# Altium integrated library NSC ADC.IntLib: 207 symbols (part 4 of 7)
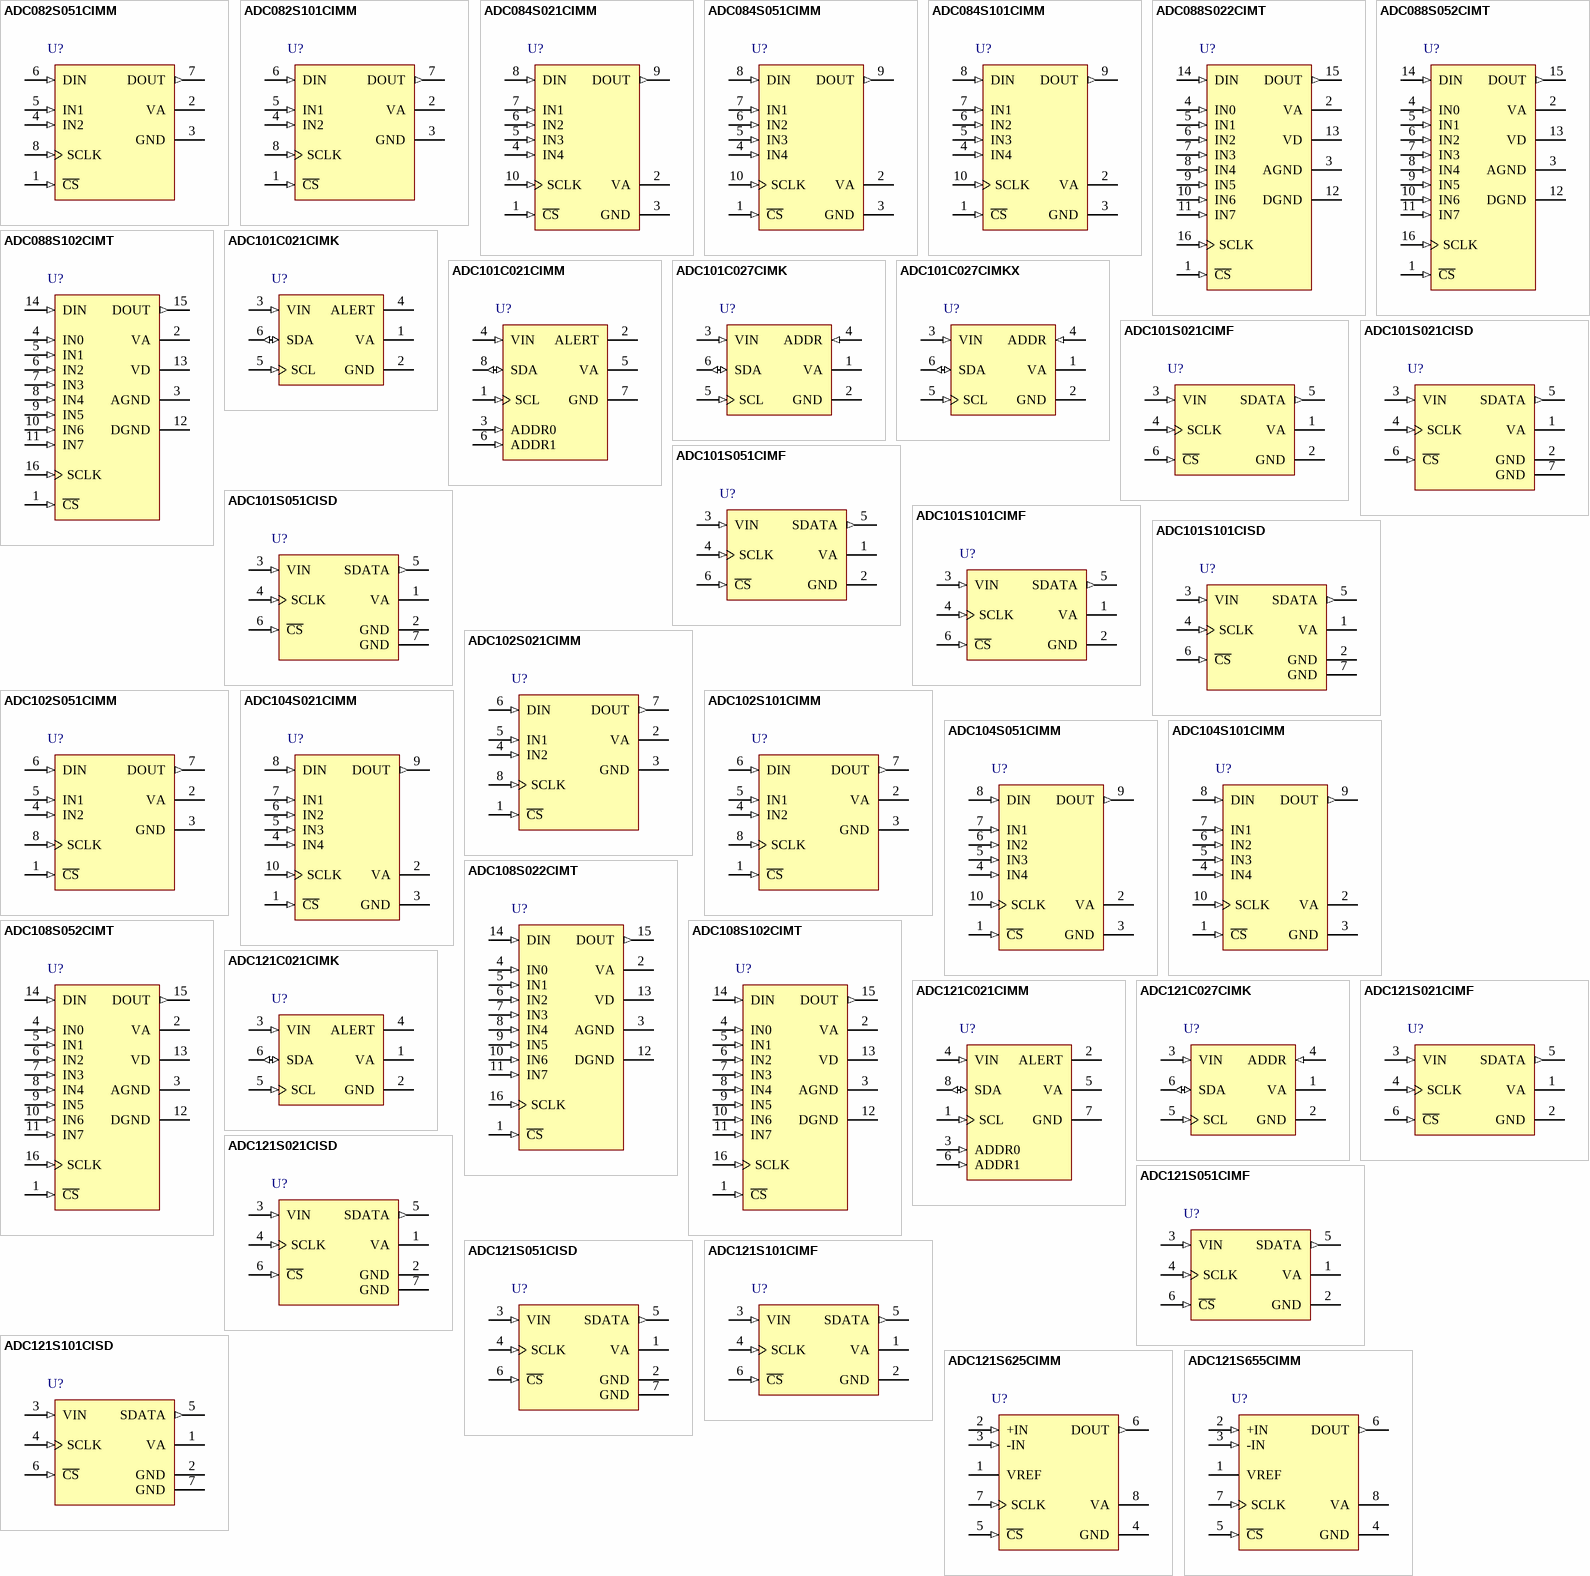
[diagram p20: symbols ADC082S051CIMM to ADC121S655CIMM]

## ADC084S101CIMM
designator U?
4 Channel, 1 MSPS, 8-Bit A/D Converter; PartNumber: ADC084S101CIMM; Manufacturer: National Semiconductor; CompType: ADC IC; PackageTopMarking: ZXTT*X25C; PowerWise: Y; Published: 4-Dec-2008; DatasheetVersion: Apr-2005; PackageVersion: revB, Jul-2003; PackageReference: MUB10A; Publisher: Altium Limited; PackageDescription: Mini-SO, Molded, .118 x .118 x .034in Body, 10 Lead, .0197in Pitch; RoHS: Y; PinCount: 10; DigiKeyPartNumber: ADC084S101CIMMCT-ND; Code_JEDEC: MO-187-BA; ComponentLink1Description: ADC084S101 Datasheet; ComponentLink1URL: http://www.national.com/ds/AD/ADC084S101.pdf; ComponentLink2Description: ADC084S101 Web Page; ComponentLink2URL: http://www.national.com/pf/AD/ADC084S101.html; ComponentLink3Description: MUB10A Package Page; ComponentLink3URL: http://www.national.com/packaging/folders/mub10a.html
footprint MUB10A_N (TSSOP, 10-Leads, Body 3x3mm, Pitch 0.5mm, IPC Medium Density)
footprint MUB10A_L (TSSOP, 10-Leads, Body 3x3mm, Pitch 0.5mm, IPC High Density)
footprint MUB10A_M (TSSOP, 10-Leads, Body 3x3mm, Pitch 0.5mm, IPC Low Density)
pins: 1 ~{CS} (in), 2 VA (power), 3 GND (power), 4 IN4 (in), 5 IN3 (in), 6 IN2 (in), 7 IN1 (in), 8 DIN (in), 9 DOUT (out), 10 SCLK (in)

## ADC088S022CIMT
designator U?
8-Channel, 50 kSPS to 200 kSPS, 8-Bit A/D Converter; PartNumber: ADC088S022CIMT; Manufacturer: National Semiconductor; CompType: ADC IC; PackageTopMarking: NSUZXYTT*88S022*CIMT; PowerWise: Y; Published: 4-Dec-2008; DatasheetVersion: Sep-2005; PackageVersion: revD, Jun-2003; PackageReference: MTC16; Publisher: Altium Limited; PackageDescription: Molded TSSOP, Jedec, 5 x 4.4 x 0.9mm Body, 16 Lead, 0.65mm Pitch; RoHS: Y; PinCount: 16; DigiKeyPartNumber: ADC088S022CIMT-ND; Code_JEDEC: MO-153-AB; ComponentLink1Description: ADC088S022 Datasheet; ComponentLink1URL: http://www.national.com/ds/AD/ADC088S022.pdf; ComponentLink2Description: ADC088S022 Web Page; ComponentLink2URL: http://www.national.com/pf/AD/ADC088S022.html; ComponentLink3Description: MTC16 Package Page; ComponentLink3URL: http://www.national.com/packaging/folders/mtc16.html
footprint MTC16_N (TSOP, 16-Leads, Body 5x4.4mm, Pitch 0.65mm, IPC Medium Density)
footprint MTC16_L (TSOP, 16-Leads, Body 5x4.4mm, Pitch 0.65mm, IPC High Density)
footprint MTC16_M (TSOP, 16-Leads, Body 5x4.4mm, Pitch 0.65mm, IPC Low Density)
pins: 1 ~{CS} (in), 2 VA (power), 3 AGND (power), 4 IN0 (in), 5 IN1 (in), 6 IN2 (in), 7 IN3 (in), 8 IN4 (in), 9 IN5 (in), 10 IN6 (in), 11 IN7 (in), 12 DGND (power), 13 VD (power), 14 DIN (in), 15 DOUT (out), 16 SCLK (in)

## ADC088S052CIMT
designator U?
8-Channel, 200 kSPS to 500 kSPS, 8-Bit A/D Converter; PartNumber: ADC088S052CIMT; Manufacturer: National Semiconductor; CompType: ADC IC; PackageTopMarking: NSUZXYTT*088S052*CIMT; PowerWise: Y; Published: 4-Dec-2008; DatasheetVersion: Sep-2005; PackageVersion: revD, Jun-2003; PackageReference: MTC16; Publisher: Altium Limited; PackageDescription: Molded TSSOP, Jedec, 5 x 4.4 x 0.9mm Body, 16 Lead, 0.65mm Pitch; RoHS: Y; PinCount: 16; DigiKeyPartNumber: ADC088S052CIMT-ND; Code_JEDEC: MO-153-AB; ComponentLink1Description: ADC088S052 Datasheet; ComponentLink1URL: http://www.national.com/ds/AD/ADC088S052.pdf; ComponentLink2Description: ADC088S052 Web Page; ComponentLink2URL: http://www.national.com/pf/AD/ADC088S052.html; ComponentLink3Description: MTC16 Package Page; ComponentLink3URL: http://www.national.com/packaging/folders/mtc16.html
footprint MTC16_N (TSOP, 16-Leads, Body 5x4.4mm, Pitch 0.65mm, IPC Medium Density)
footprint MTC16_L (TSOP, 16-Leads, Body 5x4.4mm, Pitch 0.65mm, IPC High Density)
footprint MTC16_M (TSOP, 16-Leads, Body 5x4.4mm, Pitch 0.65mm, IPC Low Density)
pins: 1 ~{CS} (in), 2 VA (power), 3 AGND (power), 4 IN0 (in), 5 IN1 (in), 6 IN2 (in), 7 IN3 (in), 8 IN4 (in), 9 IN5 (in), 10 IN6 (in), 11 IN7 (in), 12 DGND (power), 13 VD (power), 14 DIN (in), 15 DOUT (out), 16 SCLK (in)

## ADC088S102CIMT
designator U?
8-Channel, 500 kSPS to 1 MSPS, 8-Bit A/D Converter; PartNumber: ADC088S102CIMT; Manufacturer: National Semiconductor; CompType: ADC IC; PackageTopMarking: NSUZXYTT*088S102*CIMT; PowerWise: Y; Published: 4-Dec-2008; DatasheetVersion: Sep-2005; PackageVersion: revD, Jun-2003; PackageReference: MTC16; Publisher: Altium Limited; PackageDescription: Molded TSSOP, Jedec, 5 x 4.4 x 0.9mm Body, 16 Lead, 0.65mm Pitch; RoHS: Y; PinCount: 16; DigiKeyPartNumber: ADC088S102CIMT-ND; Code_JEDEC: MO-153-AB; ComponentLink1Description: ADC088S102 Datasheet; ComponentLink1URL: http://www.national.com/ds/AD/ADC088S102.pdf; ComponentLink2Description: ADC088S102 Web Page; ComponentLink2URL: http://www.national.com/pf/AD/ADC088S102.html; ComponentLink3Description: MTC16 Package Page; ComponentLink3URL: http://www.national.com/packaging/folders/mtc16.html
footprint MTC16_N (TSOP, 16-Leads, Body 5x4.4mm, Pitch 0.65mm, IPC Medium Density)
footprint MTC16_L (TSOP, 16-Leads, Body 5x4.4mm, Pitch 0.65mm, IPC High Density)
footprint MTC16_M (TSOP, 16-Leads, Body 5x4.4mm, Pitch 0.65mm, IPC Low Density)
pins: 1 ~{CS} (in), 2 VA (power), 3 AGND (power), 4 IN0 (in), 5 IN1 (in), 6 IN2 (in), 7 IN3 (in), 8 IN4 (in), 9 IN5 (in), 10 IN6 (in), 11 IN7 (in), 12 DGND (power), 13 VD (power), 14 DIN (in), 15 DOUT (out), 16 SCLK (in)

## ADC101C021CIMK
designator U?
I2C-Compatible, 10-Bit Analog-to-Digital Converter (ADC) with Alert Pin; PartNumber: ADC101C021CIMK; Manufacturer: National Semiconductor; CompType: ADC IC; PackageTopMarking: X33C*XTT; PowerWise: N; Published: 4-Dec-2008; DatasheetVersion: Mar-2009; PackageVersion: revD, Jul-2005; PackageReference: MK06A; Publisher: Altium Limited; PackageDescription: Molded TSOT, 2.97 x 1.65 x 0.87mm Body, 6 Lead, 0.95mm Pitch; RoHS: Y; PinCount: 6; DigiKeyPartNumber: ADC101C021CIMKCT-ND; Code_JEDEC: MO-193-AA; Code_IPC: SOT26A-6; ComponentLink1Description: ADC101C021 Datasheet; ComponentLink1URL: http://www.national.com/ds/AD/ADC101C021.pdf; ComponentLink2Description: ADC101C021 Web Page; ComponentLink2URL: http://www.national.com/pf/AD/ADC101C021.html; ComponentLink3Description: MK06A Package Page; ComponentLink3URL: http://www.national.com/packaging/folders/mk06a.html
footprint MK06A_N (SOT23, 6-Leads, Body 3.0x1.7mm, Pitch 0.95mm, Lead Span 2.9mm, IPC Medium Density)
footprint MK06A_L (SOT23, 6-Leads, Body 3.0x1.7mm, Pitch 0.95mm, Lead Span 2.9mm, IPC High Density)
footprint MK06A_M (SOT23, 6-Leads, Body 3.0x1.7mm, Pitch 0.95mm, Lead Span 2.9mm, IPC Low Density)
pins: 1 VA (power), 2 GND (power), 3 VIN (in), 4 ALERT (oc), 5 SCL (in), 6 SDA (io)

## ADC101C021CIMM
designator U?
I2C-Compatible, 10-Bit Analog-to-Digital Converter (ADC) with Alert Pin; PartNumber: ADC101C021CIMM; Manufacturer: National Semiconductor; CompType: ADC IC; PackageTopMarking: ZXTT*X38C; PowerWise: N; Published: 29-May-2009; DatasheetVersion: Mar-2009; PackageVersion: revF, Apr-2008; PackageReference: MUA08A; Publisher: Altium Limited; PackageDescription: MINI SOIC, .118 x .118 x .034in, 8 Lead, .0256in Pitch; RoHS: Y; PinCount: 8; Code_JEDEC: MO-187-AA; ComponentLink1Description: ADC101C021 Datasheet; ComponentLink1URL: http://www.national.com/ds/AD/ADC081C021.pdf; ComponentLink2Description: ADC101C021 Web Page; ComponentLink2URL: http://www.national.com/pf/AD/ADC101C021.html; ComponentLink3Description: MUA08A Package Page; ComponentLink3URL: http://www.national.com/packaging/folders/mua08a.html
footprint MUA08A_N (TSOP, 8-Leads, Body 3x3mm, Pitch 0.65mm, IPC Medium Density)
footprint MUA08A_L (TSOP, 8-Leads, Body 3x3mm, Pitch 0.65mm, IPC High Density)
footprint MUA08A_M (TSOP, 8-Leads, Body 3x3mm, Pitch 0.65mm, IPC Low Density)
pins: 1 SCL (in), 2 ALERT (oc), 3 ADDR0 (in), 4 VIN (in), 5 VA (power), 6 ADDR1 (in), 7 GND (power), 8 SDA (io)

## ADC101C027CIMK
designator U?
I2C-Compatible, 10-Bit Analog-to-Digital Converter (ADC) with Alert Function; PartNumber: ADC101C027CIMK; Manufacturer: National Semiconductor; CompType: ADC IC; PackageTopMarking: X32C*XTT; PowerWise: N; Published: 4-Dec-2008; DatasheetVersion: Feb-2008; PackageVersion: revD, Jul-2005; PackageReference: MK06A; Publisher: Altium Limited; PackageDescription: Molded TSOT, 2.97 x 1.65 x 0.87mm Body, 6 Lead, 0.95mm Pitch; RoHS: Y; PinCount: 6; DigiKeyPartNumber: ADC101C027CIMKCT-ND; Code_JEDEC: MO-193-AA; Code_IPC: SOT26A-6; ComponentLink1Description: ADC101C027 Datasheet; ComponentLink1URL: http://www.national.com/ds/AD/ADC101C027.pdf; ComponentLink2Description: ADC101C027 Web Page; ComponentLink2URL: http://www.national.com/pf/AD/ADC101C027.html; ComponentLink3Description: MK06A Package Page; ComponentLink3URL: http://www.national.com/packaging/folders/mk06a.html
footprint MK06A_N (SOT23, 6-Leads, Body 3.0x1.7mm, Pitch 0.95mm, Lead Span 2.9mm, IPC Medium Density)
footprint MK06A_L (SOT23, 6-Leads, Body 3.0x1.7mm, Pitch 0.95mm, Lead Span 2.9mm, IPC High Density)
footprint MK06A_M (SOT23, 6-Leads, Body 3.0x1.7mm, Pitch 0.95mm, Lead Span 2.9mm, IPC Low Density)
pins: 1 VA (power), 2 GND (power), 3 VIN (in), 4 ADDR (in), 5 SCL (in), 6 SDA (io)

## ADC101C027CIMKX
designator U?
I2C-Compatible, 10-Bit Analog-to-Digital Converter (ADC) with Alert Function; PartNumber: ADC101C027CIMKX; Manufacturer: National Semiconductor; CompType: ADC IC; PackageTopMarking: X31C*XTT; Published: 4-Dec-2008; DatasheetVersion: Feb-2008; PackageVersion: revD, Jul-2005; PackageReference: MK06A; Publisher: Altium Limited; PackageDescription: Molded TSOT, 2.97 x 1.65 x 0.87mm Body, 6 Lead, 0.95mm Pitch; RoHS: Y; PinCount: 6; DigiKeyPartNumber: ADC101C027CIMKX-ND; Code_JEDEC: MO-193-AA; Code_IPC: SOT26A-6; ComponentLink1Description: ADC101C027 Datasheet; ComponentLink1URL: http://www.national.com/ds/AD/ADC101C027.pdf; ComponentLink2Description: ADC101C027 Web Page; ComponentLink2URL: http://www.national.com/pf/AD/ADC101C027.html; ComponentLink3Description: MK06A Package Page; ComponentLink3URL: http://www.national.com/packaging/folders/mk06a.html
footprint MK06A_N (SOT23, 6-Leads, Body 3.0x1.7mm, Pitch 0.95mm, Lead Span 2.9mm, IPC Medium Density)
footprint MK06A_L (SOT23, 6-Leads, Body 3.0x1.7mm, Pitch 0.95mm, Lead Span 2.9mm, IPC High Density)
footprint MK06A_M (SOT23, 6-Leads, Body 3.0x1.7mm, Pitch 0.95mm, Lead Span 2.9mm, IPC Low Density)
pins: 1 VA (power), 2 GND (power), 3 VIN (in), 4 ADDR (in), 5 SCL (in), 6 SDA (io)

## ADC101S021CIMF
designator U?
Single Channel, 50 to 200 ksps, 10-Bit A/D Converter; PartNumber: ADC101S021CIMF; Manufacturer: National Semiconductor; CompType: ADC IC; PackageTopMarking: X08C*XTT; PowerWise: Y; Published: 4-Dec-2008; DatasheetVersion: Sep-2005; PackageVersion: revC, Sep-2005; PackageReference: MF06A; Publisher: Altium Limited; PackageDescription: Molded SOT-23, .115 x .063 x .040in Body, 6 Lead, .0375in in Pitch; RoHS: Y; PinCount: 6; DigiKeyPartNumber: ADC101S021CIMFCT-ND; Code_JEDEC: MO-178-AB; Code_IPC: SOT26A-6; ComponentLink1Description: ADC101S021 Datasheet; ComponentLink1URL: http://www.national.com/ds/AD/ADC101S021.pdf; ComponentLink2Description: ADC101S021 Web Page; ComponentLink2URL: http://www.national.com/pf/AD/ADC101S021.html; ComponentLink3Description: MF06A Package Page; ComponentLink3URL: http://www.national.com/packaging/folders/mf06a.html
footprint MF06A_N (SOT23, 6-Leads, Body 2.9x1.6mm, Pitch 0.95mm, Lead Span 2.8mm, IPC Medium Density)
footprint MF06A_L (SOT23, 6-Leads, Body 2.9x1.6mm, Pitch 0.95mm, Lead Span 2.8mm, IPC High Density)
footprint MF06A_M (SOT23, 6-Leads, Body 2.9x1.6mm, Pitch 0.95mm, Lead Span 2.8mm, IPC Low Density)
pins: 1 VA (power), 2 GND (power), 3 VIN (in), 4 SCLK (in), 5 SDATA (out), 6 ~{CS} (in)

## ADC101S021CISD
designator U?
Single Channel, 50 to 200 ksps, 10-Bit A/D Converter; PartNumber: ADC101S021CISD; Manufacturer: National Semiconductor; CompType: ADC IC; PackageTopMarking: XTT*X8C; PowerWise: Y; Published: 4-Dec-2008; DatasheetVersion: Nov-2005; PackageVersion: revA, Nov-2003; PackageReference: SDB06A; Publisher: Altium Limited; PackageDescription: LLP, Plastic, Dual, 2.2 x 2.5 x 0.8mm Body, 6 Lead, 0.65mm Pitch, No Pullback; RoHS: Y; PinCount: 6; DigiKeyPartNumber: ADC101S021CISDCT-ND; ComponentLink1Description: ADC101S021 Datasheet; ComponentLink1URL: http://www.national.com/ds/AD/ADC101S021.pdf; ComponentLink2Description: ADC101S021 Web Page; ComponentLink2URL: http://www.national.com/pf/AD/ADC101S021.html; ComponentLink3Description: SDB06A Package Page; ComponentLink3URL: http://www.national.com/packaging/folders/sdb06a.html
footprint SDB06A (SON, 6-Leads, Body 2.2x2.5mm, Pitch 0.65mm, NSC Recommended (SC-70 Land))
pins: 1 VA (power), 2 GND (power), 3 VIN (in), 4 SCLK (in), 5 SDATA (out), 6 ~{CS} (in), 7 GND (power)

## ADC101S051CIMF
designator U?
Single Channel, 200 to 500 ksps, 10-Bit A/D Converter; PartNumber: ADC101S051CIMF; Manufacturer: National Semiconductor; CompType: ADC IC; PackageTopMarking: X14C*XTT; PowerWise: Y; Published: 4-Dec-2008; DatasheetVersion: Sep-2005; PackageVersion: revC, Sep-2005; PackageReference: MF06A; Publisher: Altium Limited; PackageDescription: Molded SOT-23, .115 x .063 x .040in Body, 6 Lead, .0375in in Pitch; RoHS: Y; PinCount: 6; DigiKeyPartNumber: ADC101S051CIMFCT-ND; Code_JEDEC: MO-178-AB; Code_IPC: SOT26A-6; ComponentLink1Description: ADC101S051 Datasheet; ComponentLink1URL: http://www.national.com/ds/AD/ADC101S051.pdf; ComponentLink2Description: ADC101S051 Web Page; ComponentLink2URL: http://www.national.com/pf/AD/ADC101S051.html; ComponentLink3Description: MF06A Package Page; ComponentLink3URL: http://www.national.com/packaging/folders/mf06a.html
footprint MF06A_N (SOT23, 6-Leads, Body 2.9x1.6mm, Pitch 0.95mm, Lead Span 2.8mm, IPC Medium Density)
footprint MF06A_L (SOT23, 6-Leads, Body 2.9x1.6mm, Pitch 0.95mm, Lead Span 2.8mm, IPC High Density)
footprint MF06A_M (SOT23, 6-Leads, Body 2.9x1.6mm, Pitch 0.95mm, Lead Span 2.8mm, IPC Low Density)
pins: 1 VA (power), 2 GND (power), 3 VIN (in), 4 SCLK (in), 5 SDATA (out), 6 ~{CS} (in)

## ADC101S051CISD
designator U?
Single Channel, 200 to 500 ksps, 10-Bit A/D Converter; PartNumber: ADC101S051CISD; Manufacturer: National Semiconductor; CompType: ADC IC; PackageTopMarking: XTT*X5C; PowerWise: Y; Published: 4-Dec-2008; DatasheetVersion: Nov-2005; PackageVersion: revA, Nov-2003; PackageReference: SDB06A; Publisher: Altium Limited; PackageDescription: LLP, Plastic, Dual, 2.2 x 2.5 x 0.8mm Body, 6 Lead, 0.65mm Pitch, No Pullback; RoHS: Y; PinCount: 6; DigiKeyPartNumber: ADC101S051CISDCT-ND; ComponentLink1Description: ADC101S051 Datasheet; ComponentLink1URL: http://www.national.com/ds/AD/ADC101S051.pdf; ComponentLink2Description: ADC101S051 Web Page; ComponentLink2URL: http://www.national.com/pf/AD/ADC101S051.html; ComponentLink3Description: SDB06A Package Page; ComponentLink3URL: http://www.national.com/packaging/folders/sdb06a.html
footprint SDB06A (SON, 6-Leads, Body 2.2x2.5mm, Pitch 0.65mm, NSC Recommended (SC-70 Land))
pins: 1 VA (power), 2 GND (power), 3 VIN (in), 4 SCLK (in), 5 SDATA (out), 6 ~{CS} (in), 7 GND (power)

## ADC101S101CIMF
designator U?
1MSPS, 10-Bit A/D Converter in SOT-23; PartNumber: ADC101S101CIMF; Manufacturer: National Semiconductor; CompType: ADC IC; PackageTopMarking: X02C*XTT; PowerWise: Y; Published: 4-Dec-2008; DatasheetVersion: Jun-2004; PackageVersion: revC, Sep-2005; PackageReference: MF06A; Publisher: Altium Limited; PackageDescription: Molded SOT-23, .115 x .063 x .040in Body, 6 Lead, .0375in in Pitch; RoHS: Y; PinCount: 6; DigiKeyPartNumber: ADC101S101CIMFCT-ND; Code_JEDEC: MO-178-AB; Code_IPC: SOT26A-6; ComponentLink1Description: ADC101S101 Datasheet; ComponentLink1URL: http://www.national.com/ds/AD/ADC101S101.pdf; ComponentLink2Description: ADC101S101 Web Page; ComponentLink2URL: http://www.national.com/pf/AD/ADC101S101.html; ComponentLink3Description: MF06A Package Page; ComponentLink3URL: http://www.national.com/packaging/folders/mf06a.html
footprint MF06A_N (SOT23, 6-Leads, Body 2.9x1.6mm, Pitch 0.95mm, Lead Span 2.8mm, IPC Medium Density)
footprint MF06A_L (SOT23, 6-Leads, Body 2.9x1.6mm, Pitch 0.95mm, Lead Span 2.8mm, IPC High Density)
footprint MF06A_M (SOT23, 6-Leads, Body 2.9x1.6mm, Pitch 0.95mm, Lead Span 2.8mm, IPC Low Density)
pins: 1 VA (power), 2 GND (power), 3 VIN (in), 4 SCLK (in), 5 SDATA (out), 6 ~{CS} (in)

## ADC101S101CISD
designator U?
1MSPS, 10-Bit A/D Converter in SOT-23; PartNumber: ADC101S101CISD; Manufacturer: National Semiconductor; CompType: ADC IC; PackageTopMarking: XTT*X2C; PowerWise: Y; Published: 4-Dec-2008; DatasheetVersion: Nov-2005; PackageVersion: revA, Nov-2003; PackageReference: SDB06A; Publisher: Altium Limited; PackageDescription: LLP, Plastic, Dual, 2.2 x 2.5 x 0.8mm Body, 6 Lead, 0.65mm Pitch, No Pullback; RoHS: Y; PinCount: 6; DigiKeyPartNumber: ADC101S101CISDCT-ND; ComponentLink1Description: ADC101S101 Datasheet; ComponentLink1URL: http://www.national.com/ds/AD/ADC101S101.pdf; ComponentLink2Description: ADC101S101 Web Page; ComponentLink2URL: http://www.national.com/pf/AD/ADC101S101.html; ComponentLink3Description: SDB06A Package Page; ComponentLink3URL: http://www.national.com/packaging/folders/sdb06a.html
footprint SDB06A (SON, 6-Leads, Body 2.2x2.5mm, Pitch 0.65mm, NSC Recommended (SC-70 Land))
pins: 1 VA (power), 2 GND (power), 3 VIN (in), 4 SCLK (in), 5 SDATA (out), 6 ~{CS} (in), 7 GND (power)

## ADC102S021CIMM
designator U?
2 Channel, 200 KSPS, 10-Bit A/D Converter; PartNumber: ADC102S021CIMM; Manufacturer: National Semiconductor; CompType: ADC IC; PackageTopMarking: ZXTT*X17C; PowerWise: Y; Published: 4-Dec-2008; DatasheetVersion: Feb-2005; PackageVersion: revF, Apr-2008; PackageReference: MUA08A; Publisher: Altium Limited; PackageDescription: MINI SOIC, .118 x .118 x .034in, 8 Lead, .0256in Pitch; RoHS: O; PinCount: 8; DigiKeyPartNumber: ADC102S021CIMMCT-ND; Code_JEDEC: MO-187-AA; ComponentLink1Description: ADC102S021 Datasheet; ComponentLink1URL: http://www.national.com/ds/AD/ADC102S021.pdf; ComponentLink2Description: ADC102S021 Web Page; ComponentLink2URL: http://www.national.com/pf/AD/ADC102S021.html; ComponentLink3Description: MUA08A Package Page; ComponentLink3URL: http://www.national.com/packaging/folders/mua08a.html
footprint MUA08A_N (TSOP, 8-Leads, Body 3x3mm, Pitch 0.65mm, IPC Medium Density)
footprint MUA08A_L (TSOP, 8-Leads, Body 3x3mm, Pitch 0.65mm, IPC High Density)
footprint MUA08A_M (TSOP, 8-Leads, Body 3x3mm, Pitch 0.65mm, IPC Low Density)
pins: 1 ~{CS} (in), 2 VA (power), 3 GND (power), 4 IN2 (in), 5 IN1 (in), 6 DIN (in), 7 DOUT (out), 8 SCLK (in)

## ADC102S051CIMM
designator U?
2 Channel, 500 kSPS, 10-Bit A/D Converter; PartNumber: ADC102S051CIMM; Manufacturer: National Semiconductor; CompType: ADC IC; PackageTopMarking: ZXTT*X05C; PowerWise: Y; Published: 4-Dec-2008; DatasheetVersion: Feb-2005; PackageVersion: revF, Apr-2008; PackageReference: MUA08A; Publisher: Altium Limited; PackageDescription: MINI SOIC, .118 x .118 x .034in, 8 Lead, .0256in Pitch; RoHS: Y; PinCount: 8; DigiKeyPartNumber: ADC102S051CIMMCT-ND; Code_JEDEC: MO-187-AA; ComponentLink1Description: ADC102S051 Datasheet; ComponentLink1URL: http://www.national.com/ds/AD/ADC102S051.pdf; ComponentLink2Description: ADC102S051 Web Page; ComponentLink2URL: http://www.national.com/pf/AD/ADC102S051.html; ComponentLink3Description: MUA08A Package Page; ComponentLink3URL: http://www.national.com/packaging/folders/mua08a.html
footprint MUA08A_N (TSOP, 8-Leads, Body 3x3mm, Pitch 0.65mm, IPC Medium Density)
footprint MUA08A_L (TSOP, 8-Leads, Body 3x3mm, Pitch 0.65mm, IPC High Density)
footprint MUA08A_M (TSOP, 8-Leads, Body 3x3mm, Pitch 0.65mm, IPC Low Density)
pins: 1 ~{CS} (in), 2 VA (power), 3 GND (power), 4 IN2 (in), 5 IN1 (in), 6 DIN (in), 7 DOUT (out), 8 SCLK (in)

## ADC102S101CIMM
designator U?
2 Channel, 1 MSPS, 10-Bit A/D Converter; PartNumber: ADC102S101CIMM; Manufacturer: National Semiconductor; CompType: ADC IC; PackageTopMarking: ZXTT*X23C; PowerWise: Y; Published: 4-Dec-2008; DatasheetVersion: Feb-2005; PackageVersion: revF, Apr-2008; PackageReference: MUA08A; Publisher: Altium Limited; PackageDescription: MINI SOIC, .118 x .118 x .034in, 8 Lead, .0256in Pitch; RoHS: Y; PinCount: 8; DigiKeyPartNumber: ADC102S101CIMMCT-ND; Code_JEDEC: MO-187-AA; ComponentLink1Description: ADC102S101 Datasheet; ComponentLink1URL: http://www.national.com/ds/AD/ADC102S101.pdf; ComponentLink2Description: ADC102S101 Web Page; ComponentLink2URL: http://www.national.com/pf/AD/ADC102S101.html; ComponentLink3Description: MUA08A Package Page; ComponentLink3URL: http://www.national.com/packaging/folders/mua08a.html
footprint MUA08A_N (TSOP, 8-Leads, Body 3x3mm, Pitch 0.65mm, IPC Medium Density)
footprint MUA08A_L (TSOP, 8-Leads, Body 3x3mm, Pitch 0.65mm, IPC High Density)
footprint MUA08A_M (TSOP, 8-Leads, Body 3x3mm, Pitch 0.65mm, IPC Low Density)
pins: 1 ~{CS} (in), 2 VA (power), 3 GND (power), 4 IN2 (in), 5 IN1 (in), 6 DIN (in), 7 DOUT (out), 8 SCLK (in)

## ADC104S021CIMM
designator U?
4 Channel 200 kSPS, 10-Bit A/D Converter; PartNumber: ADC104S021CIMM; Manufacturer: National Semiconductor; CompType: ADC IC; PackageTopMarking: ZXTT*X20C; PowerWise: Y; Published: 4-Dec-2008; DatasheetVersion: Feb-2005; PackageVersion: revB, Jul-2003; PackageReference: MUB10A; Publisher: Altium Limited; PackageDescription: Mini-SO, Molded, .118 x .118 x .034in Body, 10 Lead, .0197in Pitch; RoHS: Y; PinCount: 10; DigiKeyPartNumber: ADC104S021CIMMCT-ND; Code_JEDEC: MO-187-BA; ComponentLink1Description: ADC104S021 Datasheet; ComponentLink1URL: http://www.national.com/ds/AD/ADC104S021.pdf; ComponentLink2Description: ADC104S021 Web Page; ComponentLink2URL: http://www.national.com/pf/AD/ADC104S021.html; ComponentLink3Description: MUB10A Package Page; ComponentLink3URL: http://www.national.com/packaging/folders/mub10a.html
footprint MUB10A_N (TSSOP, 10-Leads, Body 3x3mm, Pitch 0.5mm, IPC Medium Density)
footprint MUB10A_L (TSSOP, 10-Leads, Body 3x3mm, Pitch 0.5mm, IPC High Density)
footprint MUB10A_M (TSSOP, 10-Leads, Body 3x3mm, Pitch 0.5mm, IPC Low Density)
pins: 1 ~{CS} (in), 2 VA (power), 3 GND (power), 4 IN4 (in), 5 IN3 (in), 6 IN2 (in), 7 IN1 (in), 8 DIN (in), 9 DOUT (out), 10 SCLK (in)

## ADC104S051CIMM
designator U?
4 Channel 500 kSPS, 10-Bit A/D Converter; PartNumber: ADC104S051CIMM; Manufacturer: National Semiconductor; CompType: ADC IC; PackageTopMarking: ZXTT*X11C; PowerWise: Y; Published: 4-Dec-2008; DatasheetVersion: Feb-2005; PackageVersion: revB, Jul-2003; PackageReference: MUB10A; Publisher: Altium Limited; PackageDescription: Mini-SO, Molded, .118 x .118 x .034in Body, 10 Lead, .0197in Pitch; RoHS: Y; PinCount: 10; DigiKeyPartNumber: ADC104S051CIMMCT-ND; Code_JEDEC: MO-187-BA; ComponentLink1Description: ADC104S051 Datasheet; ComponentLink1URL: http://www.national.com/ds/AD/ADC104S051.pdf; ComponentLink2Description: ADC104S051 Web Page; ComponentLink2URL: http://www.national.com/pf/AD/ADC104S051.html; ComponentLink3Description: MUB10A Package Page; ComponentLink3URL: http://www.national.com/packaging/folders/mub10a.html
footprint MUB10A_N (TSSOP, 10-Leads, Body 3x3mm, Pitch 0.5mm, IPC Medium Density)
footprint MUB10A_L (TSSOP, 10-Leads, Body 3x3mm, Pitch 0.5mm, IPC High Density)
footprint MUB10A_M (TSSOP, 10-Leads, Body 3x3mm, Pitch 0.5mm, IPC Low Density)
pins: 1 ~{CS} (in), 2 VA (power), 3 GND (power), 4 IN4 (in), 5 IN3 (in), 6 IN2 (in), 7 IN1 (in), 8 DIN (in), 9 DOUT (out), 10 SCLK (in)

## ADC104S101CIMM
designator U?
4 Channel 1 MSPS, 10-Bit A/D Converter; PartNumber: ADC104S101CIMM; Manufacturer: National Semiconductor; CompType: ADC IC; PackageTopMarking: ZXTT*X26C; PowerWise: Y; Published: 4-Dec-2008; DatasheetVersion: Feb-2005; PackageVersion: revB, Jul-2003; PackageReference: MUB10A; Publisher: Altium Limited; PackageDescription: Mini-SO, Molded, .118 x .118 x .034in Body, 10 Lead, .0197in Pitch; RoHS: Y; PinCount: 10; DigiKeyPartNumber: ADC104S101CIMMCT-ND; Code_JEDEC: MO-187-BA; ComponentLink1Description: ADC104S101 Datasheet; ComponentLink1URL: http://www.national.com/ds/AD/ADC104S101.pdf; ComponentLink2Description: ADC104S101 Web Page; ComponentLink2URL: http://www.national.com/pf/AD/ADC104S101.html; ComponentLink3Description: MUB10A Package Page; ComponentLink3URL: http://www.national.com/packaging/folders/mub10a.html
footprint MUB10A_N (TSSOP, 10-Leads, Body 3x3mm, Pitch 0.5mm, IPC Medium Density)
footprint MUB10A_L (TSSOP, 10-Leads, Body 3x3mm, Pitch 0.5mm, IPC High Density)
footprint MUB10A_M (TSSOP, 10-Leads, Body 3x3mm, Pitch 0.5mm, IPC Low Density)
pins: 1 ~{CS} (in), 2 VA (power), 3 GND (power), 4 IN4 (in), 5 IN3 (in), 6 IN2 (in), 7 IN1 (in), 8 DIN (in), 9 DOUT (out), 10 SCLK (in)

## ADC108S022CIMT
designator U?
8-Channel, 50 kSPS to 200 kSPS, 10-Bit A/D Converter; PartNumber: ADC108S022CIMT; Manufacturer: National Semiconductor; CompType: ADC IC; PackageTopMarking: NSUZXYTT*108S022*CIMT; PowerWise: Y; Published: 4-Dec-2008; DatasheetVersion: Sep-2005; PackageVersion: revD, Jun-2003; PackageReference: MTC16; Publisher: Altium Limited; PackageDescription: Molded TSSOP, Jedec, 5 x 4.4 x 0.9mm Body, 16 Lead, 0.65mm Pitch; RoHS: Y; PinCount: 16; DigiKeyPartNumber: ADC108S022CIMT-ND; Code_JEDEC: MO-153-AB; ComponentLink1Description: ADC108S022 Datasheet; ComponentLink1URL: http://www.national.com/ds/AD/ADC108S022.pdf; ComponentLink2Description: ADC108S022 Web Page; ComponentLink2URL: http://www.national.com/pf/AD/ADC108S022.html; ComponentLink3Description: MTC16 Package Page; ComponentLink3URL: http://www.national.com/packaging/folders/mtc16.html
footprint MTC16_N (TSOP, 16-Leads, Body 5x4.4mm, Pitch 0.65mm, IPC Medium Density)
footprint MTC16_L (TSOP, 16-Leads, Body 5x4.4mm, Pitch 0.65mm, IPC High Density)
footprint MTC16_M (TSOP, 16-Leads, Body 5x4.4mm, Pitch 0.65mm, IPC Low Density)
pins: 1 ~{CS} (in), 2 VA (power), 3 AGND (power), 4 IN0 (in), 5 IN1 (in), 6 IN2 (in), 7 IN3 (in), 8 IN4 (in), 9 IN5 (in), 10 IN6 (in), 11 IN7 (in), 12 DGND (power), 13 VD (power), 14 DIN (in), 15 DOUT (out), 16 SCLK (in)

## ADC108S052CIMT
designator U?
8-Channel, 200 kSPS to 500 kSPS, 10-Bit A/D Converter; PartNumber: ADC108S052CIMT; Manufacturer: National Semiconductor; CompType: ADC IC; PackageTopMarking: NSUZXYTT*108S052*CIMT; PowerWise: Y; Published: 4-Dec-2008; DatasheetVersion: Sep-2005; PackageVersion: revD, Jun-2003; PackageReference: MTC16; Publisher: Altium Limited; PackageDescription: Molded TSSOP, Jedec, 5 x 4.4 x 0.9mm Body, 16 Lead, 0.65mm Pitch; RoHS: Y; PinCount: 16; DigiKeyPartNumber: ADC108S052CIMT-ND; Code_JEDEC: MO-153-AB; ComponentLink1Description: ADC108S052 Datasheet; ComponentLink1URL: http://www.national.com/ds/AD/ADC108S052.pdf; ComponentLink2Description: ADC108S052 Web Page; ComponentLink2URL: http://www.national.com/pf/AD/ADC108S052.html; ComponentLink3Description: MTC16 Package Page; ComponentLink3URL: http://www.national.com/packaging/folders/mtc16.html
footprint MTC16_N (TSOP, 16-Leads, Body 5x4.4mm, Pitch 0.65mm, IPC Medium Density)
footprint MTC16_L (TSOP, 16-Leads, Body 5x4.4mm, Pitch 0.65mm, IPC High Density)
footprint MTC16_M (TSOP, 16-Leads, Body 5x4.4mm, Pitch 0.65mm, IPC Low Density)
pins: 1 ~{CS} (in), 2 VA (power), 3 AGND (power), 4 IN0 (in), 5 IN1 (in), 6 IN2 (in), 7 IN3 (in), 8 IN4 (in), 9 IN5 (in), 10 IN6 (in), 11 IN7 (in), 12 DGND (power), 13 VD (power), 14 DIN (in), 15 DOUT (out), 16 SCLK (in)

## ADC108S102CIMT
designator U?
8-Channel, 500 kSPS to 1 MSPS, 10-Bit A/D Converter; PartNumber: ADC108S102CIMT; Manufacturer: National Semiconductor; CompType: ADC IC; PackageTopMarking: NSUZXYTT*108S102*CIMT; PowerWise: Y; Published: 4-Dec-2008; DatasheetVersion: Sep-2005; PackageVersion: revD, Jun-2003; PackageReference: MTC16; Publisher: Altium Limited; PackageDescription: Molded TSSOP, Jedec, 5 x 4.4 x 0.9mm Body, 16 Lead, 0.65mm Pitch; RoHS: Y; PinCount: 16; DigiKeyPartNumber: ADC108S102CIMT-ND; Code_JEDEC: MO-153-AB; ComponentLink1Description: ADC108S102 Datasheet; ComponentLink1URL: http://www.national.com/ds/AD/ADC108S102.pdf; ComponentLink2Description: ADC108S102 Web Page; ComponentLink2URL: http://www.national.com/pf/AD/ADC108S102.html; ComponentLink3Description: MTC16 Package Page; ComponentLink3URL: http://www.national.com/packaging/folders/mtc16.html
footprint MTC16_N (TSOP, 16-Leads, Body 5x4.4mm, Pitch 0.65mm, IPC Medium Density)
footprint MTC16_L (TSOP, 16-Leads, Body 5x4.4mm, Pitch 0.65mm, IPC High Density)
footprint MTC16_M (TSOP, 16-Leads, Body 5x4.4mm, Pitch 0.65mm, IPC Low Density)
pins: 1 ~{CS} (in), 2 VA (power), 3 AGND (power), 4 IN0 (in), 5 IN1 (in), 6 IN2 (in), 7 IN3 (in), 8 IN4 (in), 9 IN5 (in), 10 IN6 (in), 11 IN7 (in), 12 DGND (power), 13 VD (power), 14 DIN (in), 15 DOUT (out), 16 SCLK (in)

## ADC121C021CIMK
designator U?
I2C-Compatible, 12-Bit Analog-to-Digital Converter (ADC) with Alert Pin; PartNumber: ADC121C021CIMK; Manufacturer: National Semiconductor; CompType: ADC IC; PackageTopMarking: X30C*XTT; PowerWise: Y; Published: 4-Dec-2008; DatasheetVersion: Jan-2008; PackageVersion: revD, Jul-2005; PackageReference: MK06A; Publisher: Altium Limited; PackageDescription: Molded TSOT, 2.97 x 1.65 x 0.87mm Body, 6 Lead, 0.95mm Pitch; RoHS: O; PinCount: 6; DigiKeyPartNumber: ADC121C021CIMK-ND; Code_JEDEC: MO-193-AA; Code_IPC: SOT26A-6; ComponentLink1Description: ADC121C021 Datasheet; ComponentLink1URL: http://www.national.com/ds/AD/ADC121C021.pdf; ComponentLink2Description: ADC121C021 Web Page; ComponentLink2URL: http://www.national.com/pf/AD/ADC121C021.html; ComponentLink3Description: MK06A Package Page; ComponentLink3URL: http://www.national.com/packaging/folders/mk06a.html
footprint MK06A_N (SOT23, 6-Leads, Body 3.0x1.7mm, Pitch 0.95mm, Lead Span 2.9mm, IPC Medium Density)
footprint MK06A_L (SOT23, 6-Leads, Body 3.0x1.7mm, Pitch 0.95mm, Lead Span 2.9mm, IPC High Density)
footprint MK06A_M (SOT23, 6-Leads, Body 3.0x1.7mm, Pitch 0.95mm, Lead Span 2.9mm, IPC Low Density)
pins: 1 VA (power), 2 GND (power), 3 VIN (in), 4 ALERT (oc), 5 SCL (in), 6 SDA (io)

## ADC121C021CIMM
designator U?
I2C-Compatible, 12-Bit Analog-to-Digital Converter with Alert Pin; PartNumber: ADC121C021CIMM; Manufacturer: National Semiconductor; CompType: ADC IC; PackageTopMarking: ZXTT*X37C; PowerWise: Y; Published: 29-May-2009; DatasheetVersion: Apr-2009; PackageVersion: revF, Apr-2008; PackageReference: MUA08A; Publisher: Altium Limited; PackageDescription: MINI SOIC, .118 x .118 x .034in, 8 Lead, .0256in Pitch; RoHS: Y; PinCount: 8; Code_JEDEC: MO-187-AA; ComponentLink1Description: ADC121C021 Datasheet; ComponentLink1URL: http://www.national.com/ds/AD/ADC121C021.pdf; ComponentLink2Description: ADC121C021 Web Page; ComponentLink2URL: http://www.national.com/pf/AD/ADC121C021.html; ComponentLink3Description: MUA08A Package Page; ComponentLink3URL: http://www.national.com/packaging/folders/mua08a.html
footprint MUA08A_N (TSOP, 8-Leads, Body 3x3mm, Pitch 0.65mm, IPC Medium Density)
footprint MUA08A_L (TSOP, 8-Leads, Body 3x3mm, Pitch 0.65mm, IPC High Density)
footprint MUA08A_M (TSOP, 8-Leads, Body 3x3mm, Pitch 0.65mm, IPC Low Density)
pins: 1 SCL (in), 2 ALERT (oc), 3 ADDR0 (in), 4 VIN (in), 5 VA (power), 6 ADDR1 (in), 7 GND (power), 8 SDA (io)

## ADC121C027CIMK
designator U?
I2C-Compatible, 12-Bit Analog-to-Digital Converter with Alert Function; PartNumber: ADC121C027CIMK; Manufacturer: National Semiconductor; CompType: ADC IC; PackageTopMarking: X31C*XTT; PowerWise: Y; Published: 29-May-2009; DatasheetVersion: Apr-2009; PackageVersion: revD, Jul-2005; PackageReference: MK06A; Publisher: Altium Limited; PackageDescription: Molded TSOT, 2.97 x 1.65 x 0.87mm Body, 6 Lead, 0.95mm Pitch; RoHS: O; PinCount: 6; DigiKeyPartNumber: ADC121C027CIMKCT-ND; Code_JEDEC: MO-193-AA; Code_IPC: SOT26A-6; ComponentLink1Description: ADC121C027 Datasheet; ComponentLink1URL: http://www.national.com/ds/AD/ADC121C027.pdf; ComponentLink2Description: ADC121C027 Web Page; ComponentLink2URL: http://www.national.com/pf/AD/ADC121C027.html; ComponentLink3Description: MK06A Package Page; ComponentLink3URL: http://www.national.com/packaging/folders/mk06a.html
footprint MK06A_N (SOT23, 6-Leads, Body 3.0x1.7mm, Pitch 0.95mm, Lead Span 2.9mm, IPC Medium Density)
footprint MK06A_L (SOT23, 6-Leads, Body 3.0x1.7mm, Pitch 0.95mm, Lead Span 2.9mm, IPC High Density)
footprint MK06A_M (SOT23, 6-Leads, Body 3.0x1.7mm, Pitch 0.95mm, Lead Span 2.9mm, IPC Low Density)
pins: 1 VA (power), 2 GND (power), 3 VIN (in), 4 ADDR (in), 5 SCL (in), 6 SDA (io)

## ADC121S021CIMF
designator U?
Single Channel, 50 to 200 ksps, 12-Bit A/D Converter; PartNumber: ADC121S021CIMF; Manufacturer: National Semiconductor; CompType: ADC IC; PackageTopMarking: X07C*XTT; PowerWise: Y; Published: 4-Dec-2008; DatasheetVersion: Sep-2005; PackageVersion: revC, Sep-2005; PackageReference: MF06A; Publisher: Altium Limited; PackageDescription: Molded SOT-23, .115 x .063 x .040in Body, 6 Lead, .0375in in Pitch; RoHS: Y; PinCount: 6; DigiKeyPartNumber: ADC121S021CIMFCT-ND; Code_JEDEC: MO-178-AB; Code_IPC: SOT26A-6; ComponentLink1Description: ADC121S021 Datasheet; ComponentLink1URL: http://www.national.com/ds/AD/ADC121S021.pdf; ComponentLink2Description: ADC121S021 Web Page; ComponentLink2URL: http://www.national.com/pf/AD/ADC121S021.html; ComponentLink3Description: MF06A Package Page; ComponentLink3URL: http://www.national.com/packaging/folders/mf06a.html
footprint MF06A_N (SOT23, 6-Leads, Body 2.9x1.6mm, Pitch 0.95mm, Lead Span 2.8mm, IPC Medium Density)
footprint MF06A_L (SOT23, 6-Leads, Body 2.9x1.6mm, Pitch 0.95mm, Lead Span 2.8mm, IPC High Density)
footprint MF06A_M (SOT23, 6-Leads, Body 2.9x1.6mm, Pitch 0.95mm, Lead Span 2.8mm, IPC Low Density)
pins: 1 VA (power), 2 GND (power), 3 VIN (in), 4 SCLK (in), 5 SDATA (out), 6 ~{CS} (in)

## ADC121S021CISD
designator U?
Single Channel, 50 to 200 ksps, 12-Bit A/D Converter; PartNumber: ADC121S021CISD; Manufacturer: National Semiconductor; CompType: ADC IC; PackageTopMarking: XTT*X7C; PowerWise: Y; Published: 4-Dec-2008; DatasheetVersion: Nov-2005; PackageVersion: revA, Nov-2003; PackageReference: SDB06A; Publisher: Altium Limited; PackageDescription: LLP, Plastic, Dual, 2.2 x 2.5 x 0.8mm Body, 6 Lead, 0.65mm Pitch, No Pullback; RoHS: Y; PinCount: 6; DigiKeyPartNumber: ADC121S021CISDCT-ND; ComponentLink1Description: ADC121S021 Datasheet; ComponentLink1URL: http://www.national.com/ds/AD/ADC121S021.pdf; ComponentLink2Description: ADC121S021 Web Page; ComponentLink2URL: http://www.national.com/pf/AD/ADC121S021.html; ComponentLink3Description: SDB06A Package Page; ComponentLink3URL: http://www.national.com/packaging/folders/sdb06a.html
footprint SDB06A (SON, 6-Leads, Body 2.2x2.5mm, Pitch 0.65mm, NSC Recommended (SC-70 Land))
pins: 1 VA (power), 2 GND (power), 3 VIN (in), 4 SCLK (in), 5 SDATA (out), 6 ~{CS} (in), 7 GND (power)

## ADC121S051CIMF
designator U?
Single Channel, 200 to 500 ksps, 12-Bit A/D Converter; PartNumber: ADC121S051CIMF; Manufacturer: National Semiconductor; CompType: ADC IC; PackageTopMarking: X13C*XTT; PowerWise: Y; Published: 4-Dec-2008; DatasheetVersion: Sep-2005; PackageVersion: revC, Sep-2005; PackageReference: MF06A; Publisher: Altium Limited; PackageDescription: Molded SOT-23, .115 x .063 x .040in Body, 6 Lead, .0375in in Pitch; RoHS: Y; PinCount: 6; DigiKeyPartNumber: ADC121S051CIMFCT-ND; Code_JEDEC: MO-178-AB; Code_IPC: SOT26A-6; ComponentLink1Description: ADC121S051 Datasheet; ComponentLink1URL: http://www.national.com/ds/AD/ADC121S051.pdf; ComponentLink2Description: ADC121S051 Web Page; ComponentLink2URL: http://www.national.com/pf/AD/ADC121S051.html; ComponentLink3Description: MF06A Package Page; ComponentLink3URL: http://www.national.com/packaging/folders/mf06a.html
footprint MF06A_N (SOT23, 6-Leads, Body 2.9x1.6mm, Pitch 0.95mm, Lead Span 2.8mm, IPC Medium Density)
footprint MF06A_L (SOT23, 6-Leads, Body 2.9x1.6mm, Pitch 0.95mm, Lead Span 2.8mm, IPC High Density)
footprint MF06A_M (SOT23, 6-Leads, Body 2.9x1.6mm, Pitch 0.95mm, Lead Span 2.8mm, IPC Low Density)
pins: 1 VA (power), 2 GND (power), 3 VIN (in), 4 SCLK (in), 5 SDATA (out), 6 ~{CS} (in)

## ADC121S051CISD
designator U?
Single Channel, 200 to 500 ksps, 12-Bit A/D Converter; PartNumber: ADC121S051CISD; Manufacturer: National Semiconductor; CompType: ADC IC; PackageTopMarking: XTT*X4C; PowerWise: Y; Published: 4-Dec-2008; DatasheetVersion: Nov-2005; PackageVersion: revA, Nov-2003; PackageReference: SDB06A; Publisher: Altium Limited; PackageDescription: LLP, Plastic, Dual, 2.2 x 2.5 x 0.8mm Body, 6 Lead, 0.65mm Pitch, No Pullback; RoHS: Y; PinCount: 6; DigiKeyPartNumber: ADC121S051CISDCT-ND; ComponentLink1Description: ADC121S051 Datasheet; ComponentLink1URL: http://www.national.com/ds/AD/ADC121S051.pdf; ComponentLink2Description: ADC121S051 Web Page; ComponentLink2URL: http://www.national.com/pf/AD/ADC121S051.html; ComponentLink3Description: SDB06A Package Page; ComponentLink3URL: http://www.national.com/packaging/folders/sdb06a.html
footprint SDB06A (SON, 6-Leads, Body 2.2x2.5mm, Pitch 0.65mm, NSC Recommended (SC-70 Land))
pins: 1 VA (power), 2 GND (power), 3 VIN (in), 4 SCLK (in), 5 SDATA (out), 6 ~{CS} (in), 7 GND (power)

## ADC121S101CIMF
designator U?
1MSPS, 12-Bit A/D Converter in SOT-23; PartNumber: ADC121S101CIMF; Manufacturer: National Semiconductor; CompType: ADC IC; PackageTopMarking: X01C*XTT; PowerWise: Y; Published: 4-Dec-2008; DatasheetVersion: Jun-2004; PackageVersion: revC, Sep-2005; PackageReference: MF06A; Publisher: Altium Limited; PackageDescription: Molded SOT-23, .115 x .063 x .040in Body, 6 Lead, .0375in in Pitch; RoHS: Y; PinCount: 6; DigiKeyPartNumber: ADC121S101CIMFCT-ND; Code_JEDEC: MO-178-AB; Code_IPC: SOT26A-6; ComponentLink1Description: ADC121S101 Datasheet; ComponentLink1URL: http://www.national.com/ds/AD/ADC121S101.pdf; ComponentLink2Description: ADC121S101 Web Page; ComponentLink2URL: http://www.national.com/pf/AD/ADC121S101.html; ComponentLink3Description: MF06A Package Page; ComponentLink3URL: http://www.national.com/packaging/folders/mf06a.html
footprint MF06A_N (SOT23, 6-Leads, Body 2.9x1.6mm, Pitch 0.95mm, Lead Span 2.8mm, IPC Medium Density)
footprint MF06A_L (SOT23, 6-Leads, Body 2.9x1.6mm, Pitch 0.95mm, Lead Span 2.8mm, IPC High Density)
footprint MF06A_M (SOT23, 6-Leads, Body 2.9x1.6mm, Pitch 0.95mm, Lead Span 2.8mm, IPC Low Density)
pins: 1 VA (power), 2 GND (power), 3 VIN (in), 4 SCLK (in), 5 SDATA (out), 6 ~{CS} (in)

## ADC121S101CISD
designator U?
1MSPS, 12-Bit A/D Converter in SOT-23; PartNumber: ADC121S101CISD; Manufacturer: National Semiconductor; CompType: ADC IC; PackageTopMarking: XTT*X1C; PowerWise: Y; Published: 4-Dec-2008; DatasheetVersion: Nov-2005; PackageVersion: revA, Nov-2003; PackageReference: SDB06A; Publisher: Altium Limited; PackageDescription: LLP, Plastic, Dual, 2.2 x 2.5 x 0.8mm Body, 6 Lead, 0.65mm Pitch, No Pullback; RoHS: Y; PinCount: 6; DigiKeyPartNumber: ADC121S101CISDCT-ND; ComponentLink1Description: ADC121S101 Datasheet; ComponentLink1URL: http://www.national.com/ds/AD/ADC121S101.pdf; ComponentLink2Description: ADC121S101 Web Page; ComponentLink2URL: http://www.national.com/pf/AD/ADC121S101.html; ComponentLink3Description: SDB06A Package Page; ComponentLink3URL: http://www.national.com/packaging/folders/sdb06a.html
footprint SDB06A (SON, 6-Leads, Body 2.2x2.5mm, Pitch 0.65mm, NSC Recommended (SC-70 Land))
pins: 1 VA (power), 2 GND (power), 3 VIN (in), 4 SCLK (in), 5 SDATA (out), 6 ~{CS} (in), 7 GND (power)

## ADC121S625CIMM
designator U?
12-Bit, 50 ksps to 200 ksps, Differential Input, Micro Power Sampling A/D Converter; PartNumber: ADC121S625CIMM; Manufacturer: National Semiconductor; CompType: ADC IC; PackageTopMarking: ZXTT*X0AC; PowerWise: N; Published: 4-Dec-2008; DatasheetVersion: May-2005; PackageVersion: revF, Apr-2008; PackageReference: MUA08A; Publisher: Altium Limited; PackageDescription: MINI SOIC, .118 x .118 x .034in, 8 Lead, .0256in Pitch; RoHS: Y; PinCount: 8; DigiKeyPartNumber: ADC121S625CIMMCT-ND; Code_JEDEC: MO-187-AA; ComponentLink1Description: ADC121S625 Datasheet; ComponentLink1URL: http://www.national.com/ds/AD/ADC121S625.pdf; ComponentLink2Description: ADC121S625 Web Page; ComponentLink2URL: http://www.national.com/pf/AD/ADC121S625.html; ComponentLink3Description: MUA08A Package Page; ComponentLink3URL: http://www.national.com/packaging/folders/mua08a.html
footprint MUA08A_N (TSOP, 8-Leads, Body 3x3mm, Pitch 0.65mm, IPC Medium Density)
footprint MUA08A_L (TSOP, 8-Leads, Body 3x3mm, Pitch 0.65mm, IPC High Density)
footprint MUA08A_M (TSOP, 8-Leads, Body 3x3mm, Pitch 0.65mm, IPC Low Density)
pins: 1 VREF (power), 2 +IN (in), 3 -IN (in), 4 GND (power), 5 ~{CS} (in), 6 DOUT (out), 7 SCLK (in), 8 VA (power)

## ADC121S655CIMM
designator U?
12-Bit, 200 kSPS to 500 kSPS, Differential Input, Micro Power A/D Converter; PartNumber: ADC121S655CIMM; Manufacturer: National Semiconductor; CompType: ADC IC; PackageTopMarking: ZXTT*X2AC; PowerWise: N; Published: 4-Dec-2008; DatasheetVersion: Apr-2007; PackageVersion: revF, Apr-2008; PackageReference: MUA08A; Publisher: Altium Limited; PackageDescription: MINI SOIC, .118 x .118 x .034in, 8 Lead, .0256in Pitch; RoHS: Y; PinCount: 8; DigiKeyPartNumber: ADC121S655CIMMCT-ND; Code_JEDEC: MO-187-AA; ComponentLink1Description: ADC121S655 Datasheet; ComponentLink1URL: http://www.national.com/ds/AD/ADC121S655.pdf; ComponentLink2Description: ADC121S655 Web Page; ComponentLink2URL: http://www.national.com/pf/AD/ADC121S655.html; ComponentLink3Description: MUA08A Package Page; ComponentLink3URL: http://www.national.com/packaging/folders/mua08a.html
footprint MUA08A_N (TSOP, 8-Leads, Body 3x3mm, Pitch 0.65mm, IPC Medium Density)
footprint MUA08A_L (TSOP, 8-Leads, Body 3x3mm, Pitch 0.65mm, IPC High Density)
footprint MUA08A_M (TSOP, 8-Leads, Body 3x3mm, Pitch 0.65mm, IPC Low Density)
pins: 1 VREF (power), 2 +IN (in), 3 -IN (in), 4 GND (power), 5 ~{CS} (in), 6 DOUT (out), 7 SCLK (in), 8 VA (power)

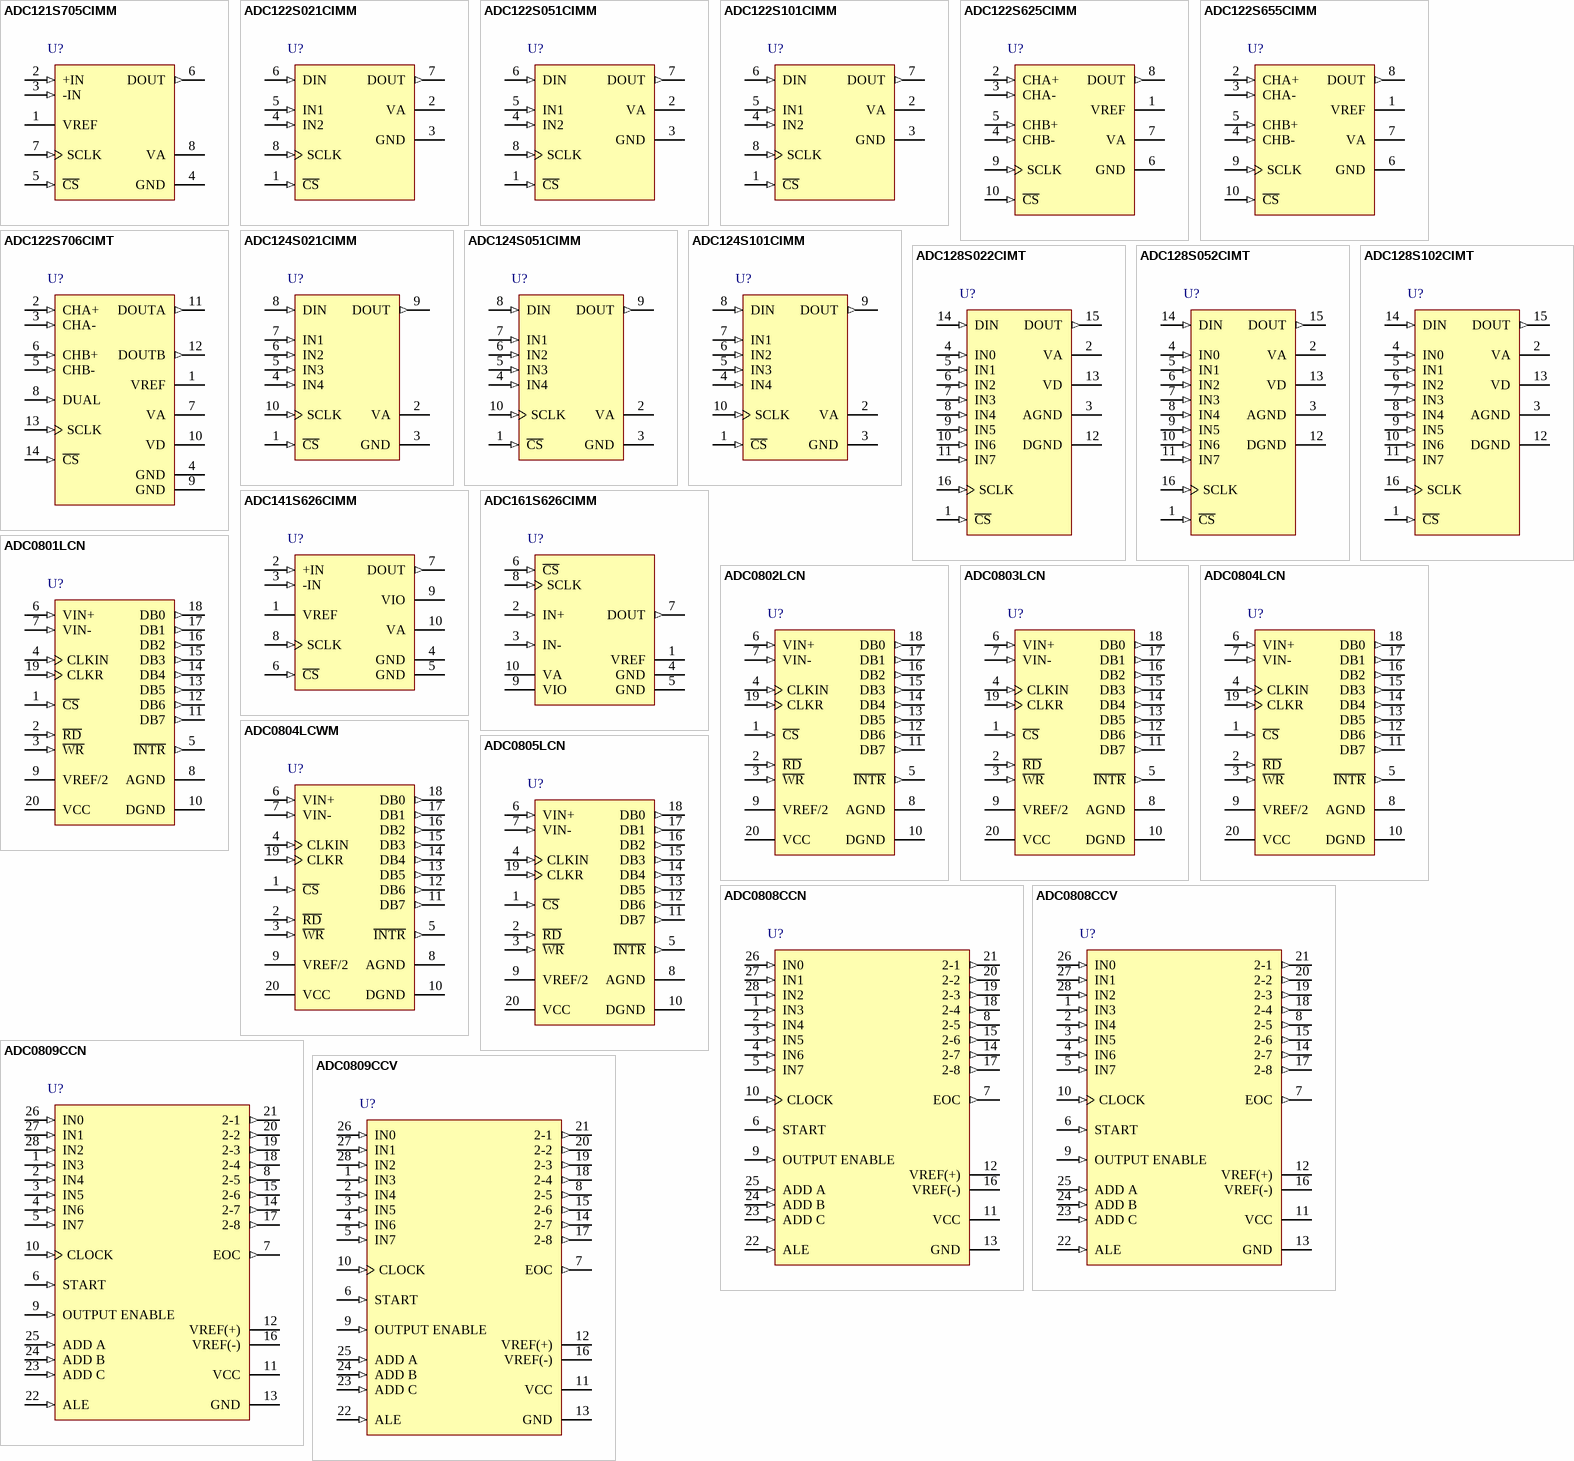
[diagram p10: symbols ADC121S705CIMM to ADC0809CCV]

## ADC121S705CIMM
designator U?
12-Bit, 500 kSPS to 1 MSPS, Differential Input, Micro Power A/D Converter; PartNumber: ADC121S705CIMM; Manufacturer: National Semiconductor; CompType: ADC IC; PackageTopMarking: ZXTT*X1AC; PowerWise: N; Published: 4-Dec-2008; DatasheetVersion: Dec-2006; PackageVersion: revF, Apr-2008; PackageReference: MUA08A; Publisher: Altium Limited; PackageDescription: MINI SOIC, .118 x .118 x .034in, 8 Lead, .0256in Pitch; RoHS: Y; PinCount: 8; DigiKeyPartNumber: ADC121S705CIMMCT-ND; Code_JEDEC: MO-187-AA; ComponentLink1Description: ADC121S705 Datasheet; ComponentLink1URL: http://www.national.com/ds/AD/ADC121S705.pdf; ComponentLink2Description: ADC121S705 Web Page; ComponentLink2URL: http://www.national.com/pf/AD/ADC121S705.html; ComponentLink3Description: MUA08A Package Page; ComponentLink3URL: http://www.national.com/packaging/folders/mua08a.html
footprint MUA08A_N (TSOP, 8-Leads, Body 3x3mm, Pitch 0.65mm, IPC Medium Density)
footprint MUA08A_L (TSOP, 8-Leads, Body 3x3mm, Pitch 0.65mm, IPC High Density)
footprint MUA08A_M (TSOP, 8-Leads, Body 3x3mm, Pitch 0.65mm, IPC Low Density)
pins: 1 VREF (power), 2 +IN (in), 3 -IN (in), 4 GND (power), 5 ~{CS} (in), 6 DOUT (out), 7 SCLK (in), 8 VA (power)

## ADC122S021CIMM
designator U?
2 Channel, 200 KSPS 12-Bit A/D Converter; PartNumber: ADC122S021CIMM; Manufacturer: National Semiconductor; CompType: ADC IC; PackageTopMarking: ZXTT*X18C; PowerWise: Y; Published: 4-Dec-2008; DatasheetVersion: Mar-2005; PackageVersion: revF, Apr-2008; PackageReference: MUA08A; Publisher: Altium Limited; PackageDescription: MINI SOIC, .118 x .118 x .034in, 8 Lead, .0256in Pitch; RoHS: Y; PinCount: 8; DigiKeyPartNumber: ADC122S021CIMMCT-ND; Code_JEDEC: MO-187-AA; ComponentLink1Description: ADC122S021 Datasheet; ComponentLink1URL: http://www.national.com/ds/AD/ADC122S021.pdf; ComponentLink2Description: ADC122S021 Web Page; ComponentLink2URL: http://www.national.com/pf/AD/ADC122S021.html; ComponentLink3Description: MUA08A Package Page; ComponentLink3URL: http://www.national.com/packaging/folders/mua08a.html
footprint MUA08A_N (TSOP, 8-Leads, Body 3x3mm, Pitch 0.65mm, IPC Medium Density)
footprint MUA08A_L (TSOP, 8-Leads, Body 3x3mm, Pitch 0.65mm, IPC High Density)
footprint MUA08A_M (TSOP, 8-Leads, Body 3x3mm, Pitch 0.65mm, IPC Low Density)
pins: 1 ~{CS} (in), 2 VA (power), 3 GND (power), 4 IN2 (in), 5 IN1 (in), 6 DIN (in), 7 DOUT (out), 8 SCLK (in)

## ADC122S051CIMM
designator U?
2 Channel, 500 kSPS 12-Bit A/D Converter; PartNumber: ADC122S051CIMM; Manufacturer: National Semiconductor; CompType: ADC IC; PackageTopMarking: ZXTT*X06C; PowerWise: Y; Published: 4-Dec-2008; DatasheetVersion: Mar-2005; PackageVersion: revF, Apr-2008; PackageReference: MUA08A; Publisher: Altium Limited; PackageDescription: MINI SOIC, .118 x .118 x .034in, 8 Lead, .0256in Pitch; RoHS: Y; PinCount: 8; DigiKeyPartNumber: ADC122S051CIMMCT-ND; Code_JEDEC: MO-187-AA; ComponentLink1Description: ADC122S051 Datasheet; ComponentLink1URL: http://www.national.com/ds/AD/ADC122S051.pdf; ComponentLink2Description: ADC122S051 Web Page; ComponentLink2URL: http://www.national.com/pf/AD/ADC122S051.html; ComponentLink3Description: MUA08A Package Page; ComponentLink3URL: http://www.national.com/packaging/folders/mua08a.html
footprint MUA08A_N (TSOP, 8-Leads, Body 3x3mm, Pitch 0.65mm, IPC Medium Density)
footprint MUA08A_L (TSOP, 8-Leads, Body 3x3mm, Pitch 0.65mm, IPC High Density)
footprint MUA08A_M (TSOP, 8-Leads, Body 3x3mm, Pitch 0.65mm, IPC Low Density)
pins: 1 ~{CS} (in), 2 VA (power), 3 GND (power), 4 IN2 (in), 5 IN1 (in), 6 DIN (in), 7 DOUT (out), 8 SCLK (in)

## ADC122S101CIMM
designator U?
2 Channel, 1MSPS 12-Bit A/D Converter; PartNumber: ADC122S101CIMM; Manufacturer: National Semiconductor; CompType: ADC IC; PackageTopMarking: ZXTT*X24C; PowerWise: Y; Published: 4-Dec-2008; DatasheetVersion: Mar-2005; PackageVersion: revF, Apr-2008; PackageReference: MUA08A; Publisher: Altium Limited; PackageDescription: MINI SOIC, .118 x .118 x .034in, 8 Lead, .0256in Pitch; RoHS: Y; PinCount: 8; DigiKeyPartNumber: ADC122S101CIMMCT-ND; Code_JEDEC: MO-187-AA; ComponentLink1Description: ADC122S101 Datasheet; ComponentLink1URL: http://www.national.com/ds/AD/ADC122S101.pdf; ComponentLink2Description: ADC122S101 Web Page; ComponentLink2URL: http://www.national.com/pf/AD/ADC122S101.html; ComponentLink3Description: MUA08A Package Page; ComponentLink3URL: http://www.national.com/packaging/folders/mua08a.html
footprint MUA08A_N (TSOP, 8-Leads, Body 3x3mm, Pitch 0.65mm, IPC Medium Density)
footprint MUA08A_L (TSOP, 8-Leads, Body 3x3mm, Pitch 0.65mm, IPC High Density)
footprint MUA08A_M (TSOP, 8-Leads, Body 3x3mm, Pitch 0.65mm, IPC Low Density)
pins: 1 ~{CS} (in), 2 VA (power), 3 GND (power), 4 IN2 (in), 5 IN1 (in), 6 DIN (in), 7 DOUT (out), 8 SCLK (in)

## ADC122S625CIMM
designator U?
Dual 12-Bit, 50 kSPS to 200 kSPS, Simultaneous Sampling A/D Converter; PartNumber: ADC122S625CIMM; Manufacturer: National Semiconductor; CompType: ADC IC; PackageTopMarking: ZXTT*X35C; PowerWise: N; Published: 4-Dec-2008; DatasheetVersion: Feb-2008; PackageVersion: revB, Jul-2003; PackageReference: MUB10A; Publisher: Altium Limited; PackageDescription: Mini-SO, Molded, .118 x .118 x .034in Body, 10 Lead, .0197in Pitch; RoHS: Y; PinCount: 10; DigiKeyPartNumber: ADC122S625CIMMCT-ND; Code_JEDEC: MO-187-BA; ComponentLink1Description: ADC122S625 Datasheet; ComponentLink1URL: http://www.national.com/ds/AD/ADC122S625.pdf; ComponentLink2Description: ADC122S625 Web Page; ComponentLink2URL: http://www.national.com/pf/AD/ADC122S625.html; ComponentLink3Description: MUB10A Package Page; ComponentLink3URL: http://www.national.com/packaging/folders/mub10a.html
footprint MUB10A_N (TSSOP, 10-Leads, Body 3x3mm, Pitch 0.5mm, IPC Medium Density)
footprint MUB10A_L (TSSOP, 10-Leads, Body 3x3mm, Pitch 0.5mm, IPC High Density)
footprint MUB10A_M (TSSOP, 10-Leads, Body 3x3mm, Pitch 0.5mm, IPC Low Density)
pins: 1 VREF (power), 2 CHA+ (in), 3 CHA- (in), 4 CHB- (in), 5 CHB+ (in), 6 GND (power), 7 VA (power), 8 DOUT (out), 9 SCLK (in), 10 ~{CS} (in)

## ADC122S655CIMM
designator U?
Dual 12-Bit, 200 kSPS to 500 kSPS, Simultaneous Sampling A/D Converter; PartNumber: ADC122S655CIMM; Manufacturer: National Semiconductor; CompType: ADC IC; PackageTopMarking: ZXTT*X96C; PowerWise: N; Published: 4-Dec-2008; DatasheetVersion: Feb-2008; PackageVersion: revB, Jul-2003; PackageReference: MUB10A; Publisher: Altium Limited; PackageDescription: Mini-SO, Molded, .118 x .118 x .034in Body, 10 Lead, .0197in Pitch; RoHS: Y; PinCount: 10; DigiKeyPartNumber: ADC122S655CIMMCT-ND; Code_JEDEC: MO-187-BA; ComponentLink1Description: ADC122S655 Datasheet; ComponentLink1URL: http://www.national.com/ds/AD/ADC122S655.pdf; ComponentLink2Description: ADC122S655 Web Page; ComponentLink2URL: http://www.national.com/pf/AD/ADC122S655.html; ComponentLink3Description: MUB10A Package Page; ComponentLink3URL: http://www.national.com/packaging/folders/mub10a.html
footprint MUB10A_N (TSSOP, 10-Leads, Body 3x3mm, Pitch 0.5mm, IPC Medium Density)
footprint MUB10A_L (TSSOP, 10-Leads, Body 3x3mm, Pitch 0.5mm, IPC High Density)
footprint MUB10A_M (TSSOP, 10-Leads, Body 3x3mm, Pitch 0.5mm, IPC Low Density)
pins: 1 VREF (power), 2 CHA+ (in), 3 CHA- (in), 4 CHB- (in), 5 CHB+ (in), 6 GND (power), 7 VA (power), 8 DOUT (out), 9 SCLK (in), 10 ~{CS} (in)